# Altium integrated library PLD Supported Devices.IntLib: 344 symbols (part 3 of 6)
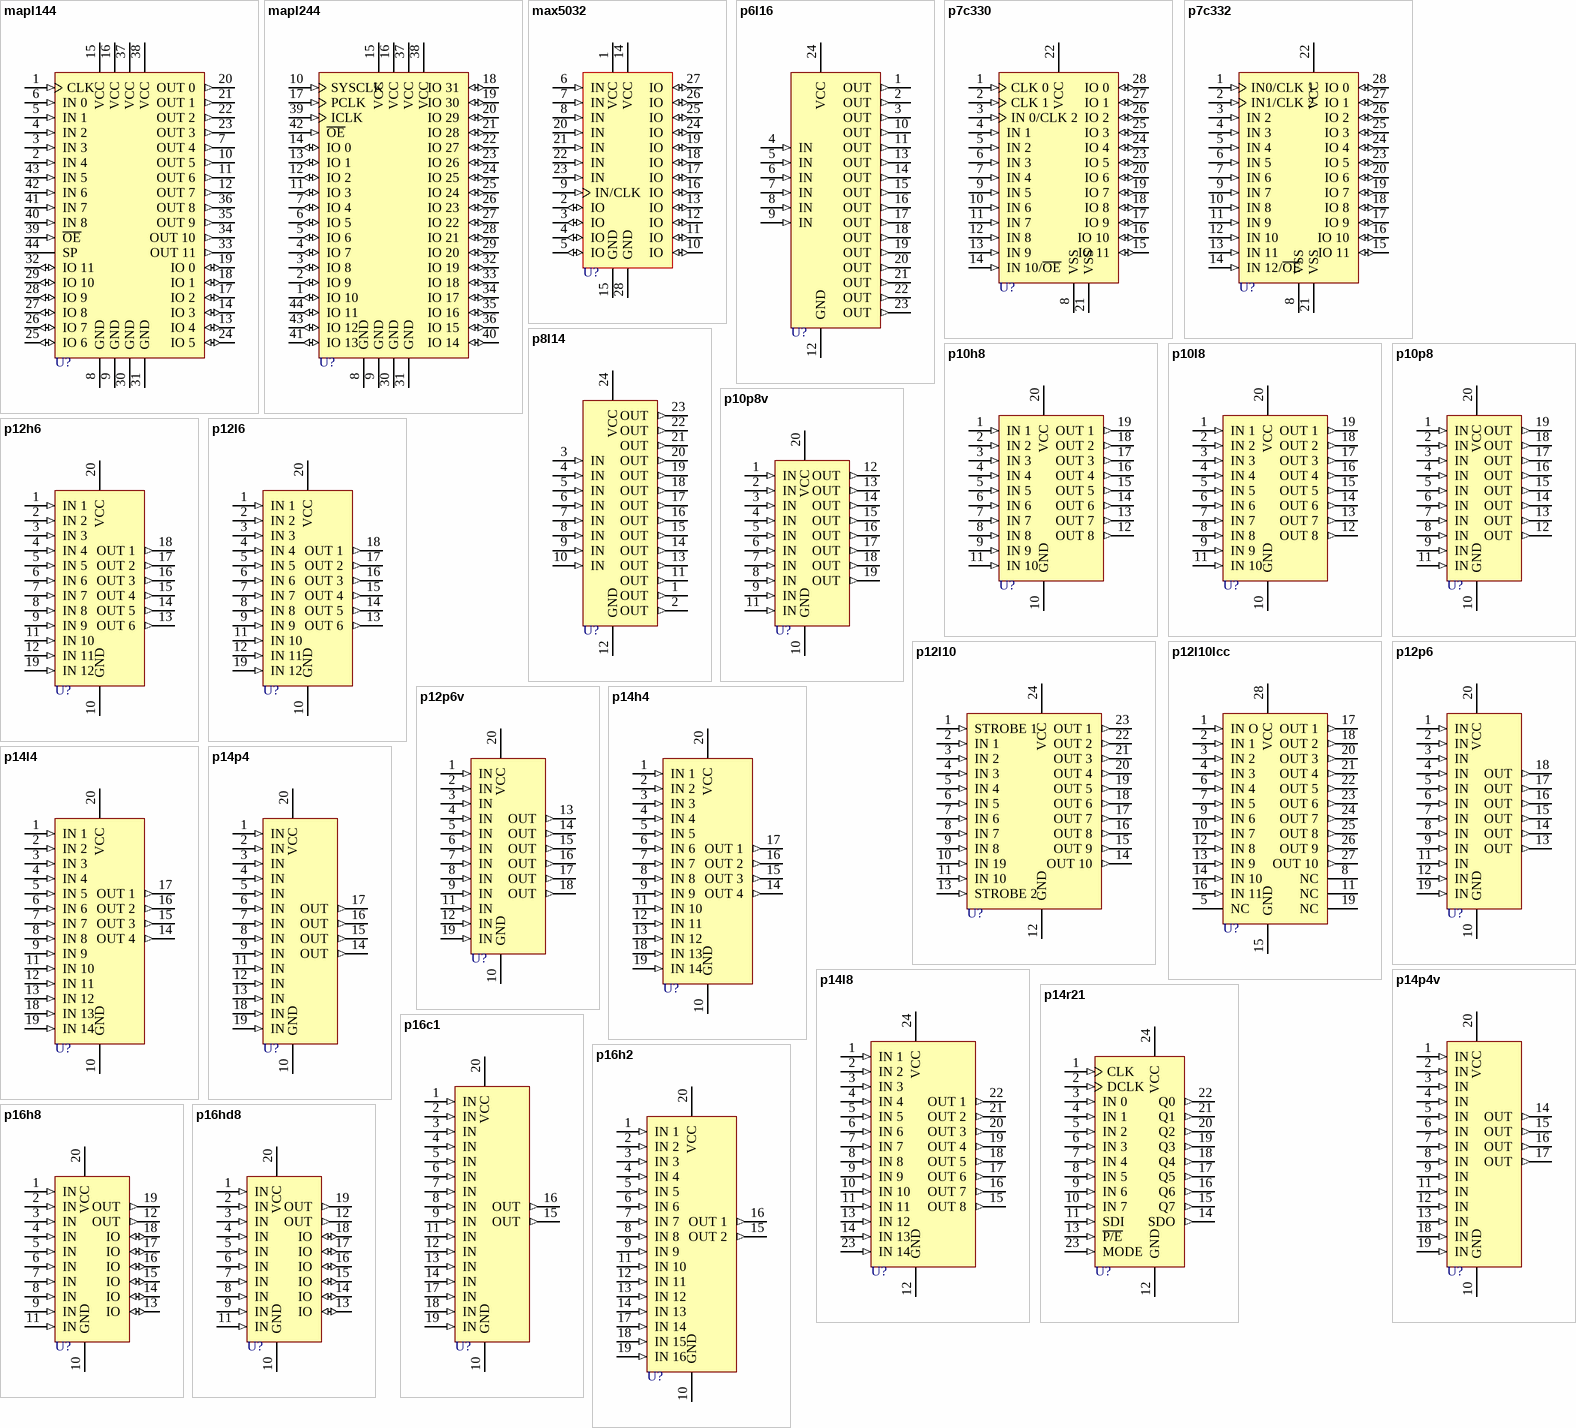
[diagram p20: symbols mapl144 to p16hd8]

## p10l8
designator U?
Combinational Logic with No Feedback; Published: 16-Jul-2002; LatestRevisionDate: 17-Jul-2002; LatestRevisionNote: Re-released for DXP Platform.; Publisher: Altium Limited
footprint DIP-20
pins: 1 IN 1 (in), 2 IN 2 (in), 3 IN 3 (in), 4 IN 4 (in), 5 IN 5 (in), 6 IN 6 (in), 7 IN 7 (in), 8 IN 8 (in), 9 IN 9 (in), 10 GND (power), 11 IN 10 (in), 12 OUT 8 (out), 13 OUT 7 (out), 14 OUT 6 (out), 15 OUT 5 (out), 16 OUT 4 (out), 17 OUT 3 (out), 18 OUT 2 (out), 19 OUT 1 (out), 20 VCC (power)

## p10p8
designator U?
CMOS Electronically Programmable Logic; Published: 16-Jul-2002; LatestRevisionDate: 17-Jul-2002; LatestRevisionNote: Re-released for DXP Platform.; Publisher: Altium Limited
footprint DIP-20
pins: 1 IN (in), 2 IN (in), 3 IN (in), 4 IN (in), 5 IN (in), 6 IN (in), 7 IN (in), 8 IN (in), 9 IN (in), 10 GND (power), 11 IN (in), 12 OUT (out), 13 OUT (out), 14 OUT (out), 15 OUT (out), 16 OUT (out), 17 OUT (out), 18 OUT (out), 19 OUT (out), 20 VCC (power)

## p10p8v
designator U?
CMOS EPL Series A/B; Published: 16-Jul-2002; LatestRevisionDate: 17-Jul-2002; LatestRevisionNote: Re-released for DXP Platform.; Publisher: Altium Limited
pins: 1 IN (in), 2 IN (in), 3 IN (in), 4 IN (in), 5 IN (in), 6 IN (in), 7 IN (in), 8 IN (in), 9 IN (in), 10 GND (power), 11 IN (in), 12 OUT (out), 13 OUT (out), 14 OUT (out), 15 OUT (out), 16 OUT (out), 17 OUT (out), 18 OUT (out), 19 OUT (out), 20 VCC (power)

## p12h6
designator U?
Combinational Logic with No Feedback; Published: 16-Jul-2002; LatestRevisionDate: 17-Jul-2002; LatestRevisionNote: Re-released for DXP Platform.; Publisher: Altium Limited
footprint DIP-20
pins: 1 IN 1 (in), 2 IN 2 (in), 3 IN 3 (in), 4 IN 4 (in), 5 IN 5 (in), 6 IN 6 (in), 7 IN 7 (in), 8 IN 8 (in), 9 IN 9 (in), 10 GND (power), 11 IN 10 (in), 12 IN 11 (in), 13 OUT 6 (out), 14 OUT 5 (out), 15 OUT 4 (out), 16 OUT 3 (out), 17 OUT 2 (out), 18 OUT 1 (out), 19 IN 12 (in), 20 VCC (power)

## p12l6
designator U?
Combinational Logic with No Feedback; Published: 16-Jul-2002; LatestRevisionDate: 17-Jul-2002; LatestRevisionNote: Re-released for DXP Platform.; Publisher: Altium Limited
footprint DIP-20
pins: 1 IN 1 (in), 2 IN 2 (in), 3 IN 3 (in), 4 IN 4 (in), 5 IN 5 (in), 6 IN 6 (in), 7 IN 7 (in), 8 IN 8 (in), 9 IN 9 (in), 10 GND (power), 11 IN 10 (in), 12 IN 11 (in), 13 OUT 6 (out), 14 OUT 5 (out), 15 OUT 4 (out), 16 OUT 3 (out), 17 OUT 2 (out), 18 OUT 1 (out), 19 IN 12 (in), 20 VCC (power)

## p12l10
designator U?
Combinational Logic with No Feedback; Published: 16-Jul-2002; LatestRevisionDate: 17-Jul-2002; LatestRevisionNote: Re-released for DXP Platform.; Publisher: Altium Limited
footprint DIP-24/X1.5
pins: 1 STROBE 1 (in), 2 IN 1 (in), 3 IN 2 (in), 4 IN 3 (in), 5 IN 4 (in), 6 IN 5 (in), 7 IN 6 (in), 8 IN 7 (in), 9 IN 8 (in), 10 IN 19 (in), 11 IN 10 (in), 12 GND (power), 13 STROBE 2 (in), 14 OUT 10 (out), 15 OUT 9 (out), 16 OUT 8 (out), 17 OUT 7 (out), 18 OUT 6 (out), 19 OUT 5 (out), 20 OUT 4 (out), 21 OUT 3 (out), 22 OUT 2 (out), 23 OUT 1 (out), 24 VCC (power)

## p12l10lcc
designator U?
Combinational Logic with No Feedback; Published: 16-Jul-2002; LatestRevisionDate: 17-Jul-2002; LatestRevisionNote: Re-released for DXP Platform.; Publisher: Altium Limited
footprint QCC-J28/X.6
pins: 1 IN O (in), 2 IN 1 (in), 3 IN 2 (in), 4 IN 3 (in), 5 NC, 6 IN 4 (in), 7 IN 5 (in), 8 NC, 9 IN 6 (in), 10 IN 7 (in), 11 NC, 12 IN 8 (in), 13 IN 9 (in), 14 IN 10 (in), 15 GND (power), 16 IN 11 (in), 17 OUT 1 (out), 18 OUT 2 (out), 19 NC, 20 OUT 3 (out), 21 OUT 4 (out), 22 OUT 5 (out), 23 OUT 6 (out), 24 OUT 7 (out), 25 OUT 8 (out), 26 OUT 9 (out), 27 OUT 10 (out), 28 VCC (power)

## p12p6
designator U?
CMOS Electronically Programmable Logic; Published: 16-Jul-2002; LatestRevisionDate: 17-Jul-2002; LatestRevisionNote: Re-released for DXP Platform.; Publisher: Altium Limited
footprint DIP-20
pins: 1 IN (in), 2 IN (in), 3 IN (in), 4 IN (in), 5 IN (in), 6 IN (in), 7 IN (in), 8 IN (in), 9 IN (in), 10 GND (power), 11 IN (in), 12 IN (in), 13 OUT (out), 14 OUT (out), 15 OUT (out), 16 OUT (out), 17 OUT (out), 18 OUT (out), 19 IN (in), 20 VCC (power)

## p12p6v
designator U?
CMOS EPL Series A/B; Published: 16-Jul-2002; LatestRevisionDate: 17-Jul-2002; LatestRevisionNote: Re-released for DXP Platform.; Publisher: Altium Limited
pins: 1 IN (in), 2 IN (in), 3 IN (in), 4 IN (in), 5 IN (in), 6 IN (in), 7 IN (in), 8 IN (in), 9 IN (in), 10 GND (power), 11 IN (in), 12 IN (in), 13 OUT (out), 14 OUT (out), 15 OUT (out), 16 OUT (out), 17 OUT (out), 18 OUT (out), 19 IN (in), 20 VCC (power)

## p14h4
designator U?
Combinational Logic with No Feedback; Published: 16-Jul-2002; LatestRevisionDate: 17-Jul-2002; LatestRevisionNote: Re-released for DXP Platform.; Publisher: Altium Limited
footprint DIP-20
pins: 1 IN 1 (in), 2 IN 2 (in), 3 IN 3 (in), 4 IN 4 (in), 5 IN 5 (in), 6 IN 6 (in), 7 IN 7 (in), 8 IN 8 (in), 9 IN 9 (in), 10 GND (power), 11 IN 10 (in), 12 IN 11 (in), 13 IN 12 (in), 14 OUT 4 (out), 15 OUT 3 (out), 16 OUT 2 (out), 17 OUT 1 (out), 18 IN 13 (in), 19 IN 14 (in), 20 VCC (power)

## p14l4
designator U?
Combinatorial Logic, with No Feedback 20-Pin PAL Device; Published: 16-Jul-2002; LatestRevisionDate: 17-Jul-2002; LatestRevisionNote: Re-released for DXP Platform.; Publisher: Altium Limited
footprint DIP-20
pins: 1 IN 1 (in), 2 IN 2 (in), 3 IN 3 (in), 4 IN 4 (in), 5 IN 5 (in), 6 IN 6 (in), 7 IN 7 (in), 8 IN 8 (in), 9 IN 9 (in), 10 GND (power), 11 IN 10 (in), 12 IN 11 (in), 13 IN 12 (in), 14 OUT 4 (out), 15 OUT 3 (out), 16 OUT 2 (out), 17 OUT 1 (out), 18 IN 13 (in), 19 IN 14 (in), 20 VCC (power)

## p14l8
designator U?
Six Combinatorial Logic, with No Feedback 24-Pin PAL Device; Published: 16-Jul-2002; LatestRevisionDate: 17-Jul-2002; LatestRevisionNote: Re-released for DXP Platform.; Publisher: Altium Limited
footprint DIP-24/X1.5
pins: 1 IN 1 (in), 2 IN 2 (in), 3 IN 3 (in), 4 IN 4 (in), 5 IN 5 (in), 6 IN 6 (in), 7 IN 7 (in), 8 IN 8 (in), 9 IN 9 (in), 10 IN 10 (in), 11 IN 11 (in), 12 GND (power), 13 IN 12 (in), 14 IN 13 (in), 15 OUT 8 (out), 16 OUT 7 (out), 17 OUT 6 (out), 18 OUT 5 (out), 19 OUT 4 (out), 20 OUT 3 (out), 21 OUT 2 (out), 22 OUT 1 (out), 23 IN 14 (in), 24 VCC (power)

## p14p4
designator U?
CMOS Electronically Programmable Logic; Published: 16-Jul-2002; LatestRevisionDate: 17-Jul-2002; LatestRevisionNote: Re-released for DXP Platform.; Publisher: Altium Limited
footprint DIP-20
pins: 1 IN (in), 2 IN (in), 3 IN (in), 4 IN (in), 5 IN (in), 6 IN (in), 7 IN (in), 8 IN (in), 9 IN (in), 10 GND (power), 11 IN (in), 12 IN (in), 13 IN (in), 14 OUT (out), 15 OUT (out), 16 OUT (out), 17 OUT (out), 18 IN (in), 19 IN (in), 20 VCC (power)

## p14p4v
designator U?
CMOS EPL Series A/B; Published: 16-Jul-2002; LatestRevisionDate: 17-Jul-2002; LatestRevisionNote: Re-released for DXP Platform.; Publisher: Altium Limited
pins: 1 IN (in), 2 IN (in), 3 IN (in), 4 IN (in), 5 IN (in), 6 IN (in), 7 IN (in), 8 IN (in), 9 IN (in), 10 GND (power), 11 IN (in), 12 IN (in), 13 IN (in), 14 OUT (out), 15 OUT (out), 16 OUT (out), 17 OUT (out), 18 IN (in), 19 IN (in), 20 VCC (power)

## p14r21
designator U?
Programable Sequencer; Published: 16-Jul-2002; LatestRevisionDate: 17-Jul-2002; LatestRevisionNote: Re-released for DXP Platform.; Publisher: Altium Limited
footprint DIP-24/D31
pins: 1 CLK (in), 2 DCLK (in), 3 IN 0 (in), 4 IN 1 (in), 5 IN 2 (in), 6 IN 3 (in), 7 IN 4 (in), 8 IN 5 (in), 9 IN 6 (in), 10 IN 7 (in), 11 SDI (in), 12 GND (power), 13 ~{P/E} (in), 14 SDO (out), 15 Q7 (out), 16 Q6 (out), 17 Q5 (out), 18 Q4 (out), 19 Q3 (out), 20 Q2 (out), 21 Q1 (out), 22 Q0 (out), 23 MODE (in), 24 VCC (power)

## p16c1
designator U?
PAL Series 20 AP with Programmable Output Polarity; Published: 16-Jul-2002; LatestRevisionDate: 17-Jul-2002; LatestRevisionNote: Re-released for DXP Platform.; Publisher: Altium Limited
footprint DIP-20
pins: 1 IN (in), 2 IN (in), 3 IN (in), 4 IN (in), 5 IN (in), 6 IN (in), 7 IN (in), 8 IN (in), 9 IN (in), 10 GND (power), 11 IN (in), 12 IN (in), 13 IN (in), 14 IN (in), 15 OUT (out), 16 OUT (out), 17 IN (in), 18 IN (in), 19 IN (in), 20 VCC (power)

## p16h2
designator U?
Combinational Logic with No Feedback; Published: 16-Jul-2002; LatestRevisionDate: 17-Jul-2002; LatestRevisionNote: Re-released for DXP Platform.; Publisher: Altium Limited
footprint DIP-20/E5.3
pins: 1 IN 1 (in), 2 IN 2 (in), 3 IN 3 (in), 4 IN 4 (in), 5 IN 5 (in), 6 IN 6 (in), 7 IN 7 (in), 8 IN 8 (in), 9 IN 9 (in), 10 GND (power), 11 IN 10 (in), 12 IN 11 (in), 13 IN 12 (in), 14 IN 13 (in), 15 OUT 2 (out), 16 OUT 1 (out), 17 IN 14 (in), 18 IN 15 (in), 19 IN 16 (in), 20 VCC (power)

## p16h8
designator U?
20-Pin IMOX PAL Elements; Published: 16-Jul-2002; LatestRevisionDate: 17-Jul-2002; LatestRevisionNote: Re-released for DXP Platform.; Publisher: Altium Limited
footprint DIP-20/E5.3
pins: 1 IN (in), 2 IN (in), 3 IN (in), 4 IN (in), 5 IN (in), 6 IN (in), 7 IN (in), 8 IN (in), 9 IN (in), 10 GND (power), 11 IN (in), 12 OUT (out), 13 IO (io), 14 IO (io), 15 IO (io), 16 IO (io), 17 IO (io), 18 IO (io), 19 OUT (out), 20 VCC (power)

## p16hd8
designator U?
20-Pin IMOX PAL Elements; Published: 16-Jul-2002; LatestRevisionDate: 17-Jul-2002; LatestRevisionNote: Re-released for DXP Platform.; Publisher: Altium Limited
footprint DIP-20/D25
pins: 1 IN (in), 2 IN (in), 3 IN (in), 4 IN (in), 5 IN (in), 6 IN (in), 7 IN (in), 8 IN (in), 9 IN (in), 10 GND (power), 11 IN (in), 12 OUT (out), 13 IO (io), 14 IO (io), 15 IO (io), 16 IO (io), 17 IO (io), 18 IO (io), 19 OUT (out), 20 VCC (power)

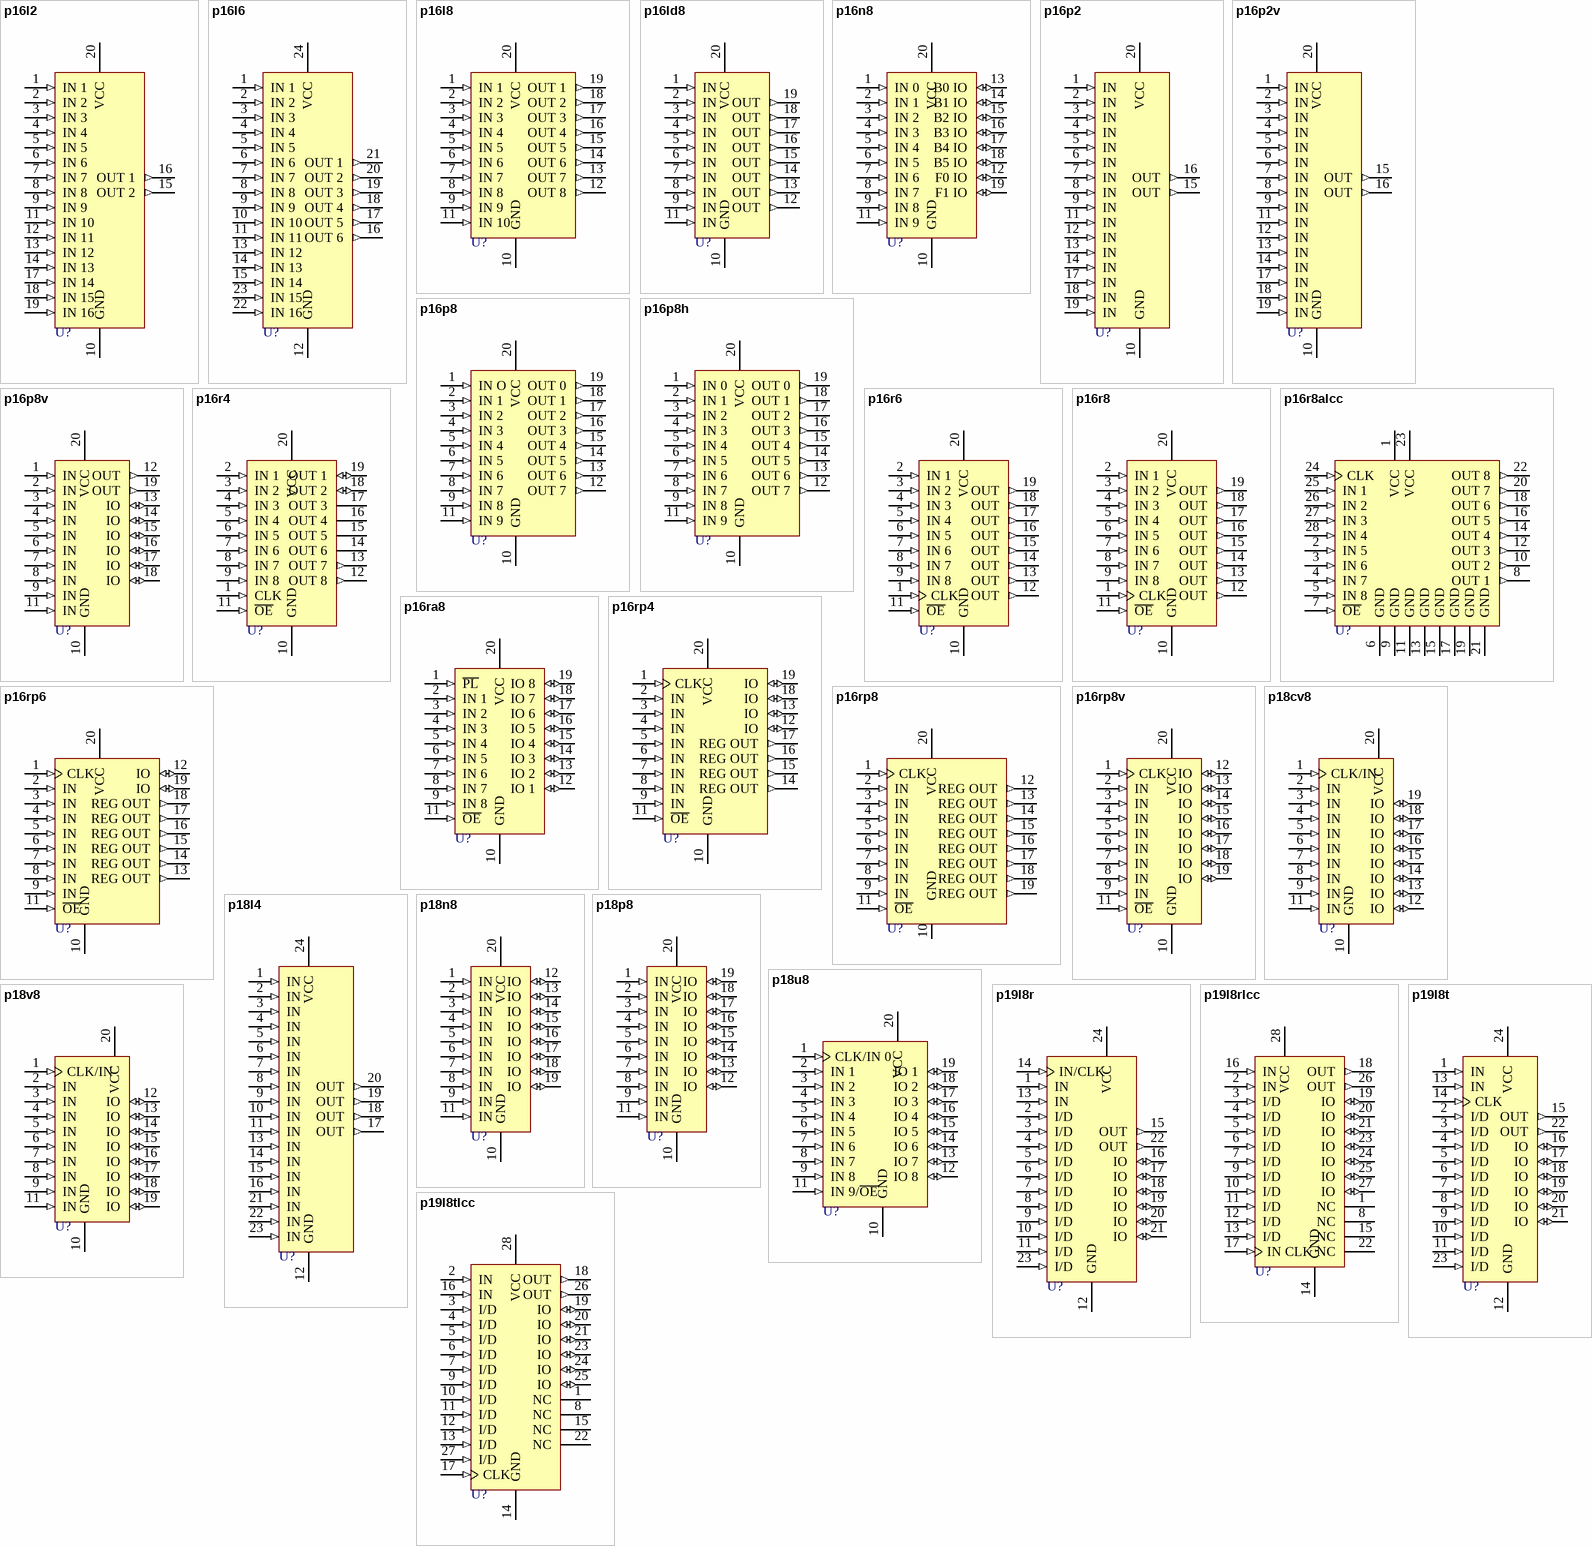
[diagram p8: symbols p16l2 to p19l8tlcc]

## p16l2
designator U?
Nine Combinatorial Logic, with No Feedback 20-Pin PAL Device; Published: 16-Jul-2002; LatestRevisionDate: 17-Jul-2002; LatestRevisionNote: Re-released for DXP Platform.; Publisher: Altium Limited
footprint DIP-20/E5.3
pins: 1 IN 1 (in), 2 IN 2 (in), 3 IN 3 (in), 4 IN 4 (in), 5 IN 5 (in), 6 IN 6 (in), 7 IN 7 (in), 8 IN 8 (in), 9 IN 9 (in), 10 GND (power), 11 IN 10 (in), 12 IN 11 (in), 13 IN 12 (in), 14 IN 13 (in), 15 OUT 2 (out), 16 OUT 1 (out), 17 IN 14 (in), 18 IN 15 (in), 19 IN 16 (in), 20 VCC (power)

## p16l6
designator U?
Six Combinatorial Logic, with No Feedback 24-Pin PAL Device; Published: 16-Jul-2002; LatestRevisionDate: 17-Jul-2002; LatestRevisionNote: Re-released for DXP Platform.; Publisher: Altium Limited
footprint DIP-24/X1.5
pins: 1 IN 1 (in), 2 IN 2 (in), 3 IN 3 (in), 4 IN 4 (in), 5 IN 5 (in), 6 IN 6 (in), 7 IN 7 (in), 8 IN 8 (in), 9 IN 9 (in), 10 IN 10 (in), 11 IN 11 (in), 12 GND (power), 13 IN 12 (in), 14 IN 13 (in), 15 IN 14 (in), 16 OUT 6 (out), 17 OUT 5 (out), 18 OUT 4 (out), 19 OUT 3 (out), 20 OUT 2 (out), 21 OUT 1 (out), 22 IN 16 (in), 23 IN 15 (in), 24 VCC (power)

## p16l8
designator U?
10ns 20-Pin TTL PAL; Published: 16-Jul-2002; LatestRevisionDate: 17-Jul-2002; LatestRevisionNote: Re-released for DXP Platform.; Publisher: Altium Limited
footprint DIP-20/E5.3
pins: 1 IN 1 (in), 2 IN 2 (in), 3 IN 3 (in), 4 IN 4 (in), 5 IN 5 (in), 6 IN 6 (in), 7 IN 7 (in), 8 IN 8 (in), 9 IN 9 (in), 10 GND (power), 11 IN 10 (in), 12 OUT 8 (out), 13 OUT 7 (out), 14 OUT 6 (out), 15 OUT 5 (out), 16 OUT 4 (out), 17 OUT 3 (out), 18 OUT 2 (out), 19 OUT 1 (out), 20 VCC (power)

## p16ld8
designator U?
20-Pin IMOX PAL Elements; Published: 16-Jul-2002; LatestRevisionDate: 17-Jul-2002; LatestRevisionNote: Re-released for DXP Platform.; Publisher: Altium Limited
pins: 1 IN (in), 2 IN (in), 3 IN (in), 4 IN (in), 5 IN (in), 6 IN (in), 7 IN (in), 8 IN (in), 9 IN (in), 10 GND (power), 11 IN (in), 12 OUT (out), 13 OUT (out), 14 OUT (out), 15 OUT (out), 16 OUT (out), 17 OUT (out), 18 OUT (out), 19 OUT (out), 20 VCC (power)

## p16n8
designator U?
Programmable High-Speed Decoder Logic (16x16x8); Published: 16-Jul-2002; LatestRevisionDate: 17-Jul-2002; LatestRevisionNote: Re-released for DXP Platform.; Publisher: Altium Limited
pins: 1 IN 0 (in), 2 IN 1 (in), 3 IN 2 (in), 4 IN 3 (in), 5 IN 4 (in), 6 IN 5 (in), 7 IN 6 (in), 8 IN 7 (in), 9 IN 8 (in), 10 GND (power), 11 IN 9 (in), 12 F0 IO (io), 13 B0 IO (io), 14 B1 IO (io), 15 B2 IO (io), 16 B3 IO (io), 17 B4 IO (io), 18 B5 IO (io), 19 F1 IO (io), 20 VCC (power)

## p16p2
designator U?
CMOS Electronically Programmable Logic; Published: 16-Jul-2002; LatestRevisionDate: 17-Jul-2002; LatestRevisionNote: Re-released for DXP Platform.; Publisher: Altium Limited
pins: 1 IN (in), 2 IN (in), 3 IN (in), 4 IN (in), 5 IN (in), 6 IN (in), 7 IN (in), 8 IN (in), 9 IN (in), 10 GND (power), 11 IN (in), 12 IN (in), 13 IN (in), 14 IN (in), 15 OUT (out), 16 OUT (out), 17 IN (in), 18 IN (in), 19 IN (in), 20 VCC (power)

## p16p2v
designator U?
CMOS EPL Series A/B; Published: 16-Jul-2002; LatestRevisionDate: 17-Jul-2002; LatestRevisionNote: Re-released for DXP Platform.; Publisher: Altium Limited
pins: 1 IN (in), 2 IN (in), 3 IN (in), 4 IN (in), 5 IN (in), 6 IN (in), 7 IN (in), 8 IN (in), 9 IN (in), 10 GND (power), 11 IN (in), 12 IN (in), 13 IN (in), 14 IN (in), 15 OUT (out), 16 OUT (out), 17 IN (in), 18 IN (in), 19 IN (in), 20 VCC (power)

## p16p8
designator U?
Programmable Logic Array Memory & High-Speed Logic; Published: 16-Jul-2002; LatestRevisionDate: 17-Jul-2002; LatestRevisionNote: Re-released for DXP Platform.; Publisher: Altium Limited
footprint DIP-20/D25
pins: 1 IN O (in), 2 IN 1 (in), 3 IN 2 (in), 4 IN 3 (in), 5 IN 4 (in), 6 IN 5 (in), 7 IN 6 (in), 8 IN 7 (in), 9 IN 8 (in), 10 GND (power), 11 IN 9 (in), 12 OUT 7 (out), 13 OUT 6 (out), 14 OUT 5 (out), 15 OUT 4 (out), 16 OUT 3 (out), 17 OUT 2 (out), 18 OUT 1 (out), 19 OUT 0 (out), 20 VCC (power)

## p16p8h
designator U?
HPL Programmable Logic; Published: 16-Jul-2002; LatestRevisionDate: 17-Jul-2002; LatestRevisionNote: Re-released for DXP Platform.; Publisher: Altium Limited
pins: 1 IN 0 (in), 2 IN 1 (in), 3 IN 2 (in), 4 IN 3 (in), 5 IN 4 (in), 6 IN 5 (in), 7 IN 6 (in), 8 IN 7 (in), 9 IN 8 (in), 10 GND (power), 11 IN 9 (in), 12 OUT 7 (out), 13 OUT 6 (out), 14 OUT 5 (out), 15 OUT 4 (out), 16 OUT 3 (out), 17 OUT 2 (out), 18 OUT 1 (out), 19 OUT 0 (out), 20 VCC (power)

## p16p8v
designator U?
CMOS EPL Series A/B; Published: 16-Jul-2002; LatestRevisionDate: 17-Jul-2002; LatestRevisionNote: Re-released for DXP Platform.; Publisher: Altium Limited
pins: 1 IN (in), 2 IN (in), 3 IN (in), 4 IN (in), 5 IN (in), 6 IN (in), 7 IN (in), 8 IN (in), 9 IN (in), 10 GND (power), 11 IN (in), 12 OUT (out), 13 IO (io), 14 IO (io), 15 IO (io), 16 IO (io), 17 IO (io), 18 IO (io), 19 OUT (out), 20 VCC (power)

## p16r4
designator U?
20-Pin IMOX PAL Elements; Published: 16-Jul-2002; LatestRevisionDate: 17-Jul-2002; LatestRevisionNote: Re-released for DXP Platform.; Publisher: Altium Limited
footprint DIP-20/E5.3
pins: 1 CLK (in), 2 IN 1 (in), 3 IN 2 (in), 4 IN 3 (in), 5 IN 4 (in), 6 IN 5 (in), 7 IN 6 (in), 8 IN 7 (in), 9 IN 8 (in), 10 GND (power), 11 ~{OE} (in), 12 OUT 8 (out), 13 OUT 7 (out), 14 OUT 6 (hiz), 15 OUT 5 (hiz), 16 OUT 4 (hiz), 17 OUT 3 (hiz), 18 OUT 2 (io), 19 OUT 1 (io), 20 VCC (power)

## p16r6
designator U?
20-Pin IMOX PAL Elements; Published: 16-Jul-2002; LatestRevisionDate: 17-Jul-2002; LatestRevisionNote: Re-released for DXP Platform.; Publisher: Altium Limited
footprint DIP-20/E5.3
pins: 1 CLK (in), 2 IN 1 (in), 3 IN 2 (in), 4 IN 3 (in), 5 IN 4 (in), 6 IN 5 (in), 7 IN 6 (in), 8 IN 7 (in), 9 IN 8 (in), 10 GND (power), 11 ~{OE} (in), 12 OUT (out), 13 OUT (out), 14 OUT (out), 15 OUT (out), 16 OUT (out), 17 OUT (out), 18 OUT (out), 19 OUT (out), 20 VCC (power)

## p16r8
designator U?
20-Pin IMOX PAL Elements; Published: 16-Jul-2002; LatestRevisionDate: 17-Jul-2002; LatestRevisionNote: Re-released for DXP Platform.; Publisher: Altium Limited
footprint DIP-20/E5.3
pins: 1 CLK (in), 2 IN 1 (in), 3 IN 2 (in), 4 IN 3 (in), 5 IN 4 (in), 6 IN 5 (in), 7 IN 6 (in), 8 IN 7 (in), 9 IN 8 (in), 10 GND (power), 11 ~{OE} (in), 12 OUT (out), 13 OUT (out), 14 OUT (out), 15 OUT (out), 16 OUT (out), 17 OUT (out), 18 OUT (out), 19 OUT (out), 20 VCC (power)

## p16r8alcc
designator U?
10ns 20-Pin TTL Programmable Array Logic; Published: 16-Jul-2002; LatestRevisionDate: 17-Jul-2002; LatestRevisionNote: Re-released for DXP Platform.; Publisher: Altium Limited
footprint QCC-J28/X.6
pins: 1 VCC (power), 2 IN 5 (in), 3 IN 6 (in), 4 IN 7 (in), 5 IN 8 (in), 6 GND (power), 7 ~{OE} (in), 8 OUT 1 (out), 9 GND (power), 10 OUT 2 (out), 11 GND (power), 12 OUT 3 (out), 13 GND (power), 14 OUT 4 (out), 15 GND (power), 16 OUT 5 (out), 17 GND (power), 18 OUT 6 (out), 19 GND (power), 20 OUT 7 (out), 21 GND (power), 22 OUT 8 (out), 23 VCC (power), 24 CLK (in), 25 IN 1 (in), 26 IN 2 (in), 27 IN 3 (in), 28 IN 4 (in)

## p16ra8
designator U?
20-Pin Asynchronous TTL PAL; Published: 16-Jul-2002; LatestRevisionDate: 17-Jul-2002; LatestRevisionNote: Re-released for DXP Platform.; Publisher: Altium Limited
footprint DIP-20/E5.3
pins: 1 ~{PL} (in), 2 IN 1 (in), 3 IN 2 (in), 4 IN 3 (in), 5 IN 4 (in), 6 IN 5 (in), 7 IN 6 (in), 8 IN 7 (in), 9 IN 8 (in), 10 GND (power), 11 ~{OE} (in), 12 IO 1 (io), 13 IO 2 (io), 14 IO 3 (io), 15 IO 4 (io), 16 IO 5 (io), 17 IO 6 (io), 18 IO 7 (io), 19 IO 8 (io), 20 VCC (power)

## p16rp4
designator U?
High-Performance Bipolar PLD; Published: 16-Jul-2002; LatestRevisionDate: 17-Jul-2002; LatestRevisionNote: Re-released for DXP Platform.; Publisher: Altium Limited
pins: 1 CLK (in), 2 IN (in), 3 IN (in), 4 IN (in), 5 IN (in), 6 IN (in), 7 IN (in), 8 IN (in), 9 IN (in), 10 GND (power), 11 ~{OE} (in), 12 IO (io), 13 IO (io), 14 REG OUT (out), 15 REG OUT (out), 16 REG OUT (out), 17 REG OUT (out), 18 IO (io), 19 IO (io), 20 VCC (power)

## p16rp6
designator U?
High-Performance Bipolar PLD; Published: 16-Jul-2002; LatestRevisionDate: 17-Jul-2002; LatestRevisionNote: Re-released for DXP Platform.; Publisher: Altium Limited
footprint DIP-20/D25
pins: 1 CLK (in), 2 IN (in), 3 IN (in), 4 IN (in), 5 IN (in), 6 IN (in), 7 IN (in), 8 IN (in), 9 IN (in), 10 GND (power), 11 ~{OE} (in), 12 IO (io), 13 REG OUT (out), 14 REG OUT (out), 15 REG OUT (out), 16 REG OUT (out), 17 REG OUT (out), 18 REG OUT (out), 19 IO (io), 20 VCC (power)

## p16rp8
designator U?
High-Performance Bipolar PLD; Published: 16-Jul-2002; LatestRevisionDate: 17-Jul-2002; LatestRevisionNote: Re-released for DXP Platform.; Publisher: Altium Limited
footprint DIP-20/E5.3
pins: 1 CLK (in), 2 IN (in), 3 IN (in), 4 IN (in), 5 IN (in), 6 IN (in), 7 IN (in), 8 IN (in), 9 IN (in), 10 GND (power), 11 ~{OE} (in), 12 REG OUT (out), 13 REG OUT (out), 14 REG OUT (out), 15 REG OUT (out), 16 REG OUT (out), 17 REG OUT (out), 18 REG OUT (out), 19 REG OUT (out), 20 VCC (power)

## p16rp8v
designator U?
CMOS EPL Series A/B; Published: 16-Jul-2002; LatestRevisionDate: 17-Jul-2002; LatestRevisionNote: Re-released for DXP Platform.; Publisher: Altium Limited
pins: 1 CLK (in), 2 IN (in), 3 IN (in), 4 IN (in), 5 IN (in), 6 IN (in), 7 IN (in), 8 IN (in), 9 IN (in), 10 GND (power), 11 ~{OE} (in), 12 IO (io), 13 IO (io), 14 IO (io), 15 IO (io), 16 IO (io), 17 IO (io), 18 IO (io), 19 IO (io), 20 VCC (power)

## p18cv8
designator U?
CMOS Programmable Electrically Erasable Logic Device; Published: 16-Jul-2002; LatestRevisionDate: 17-Jul-2002; LatestRevisionNote: Re-released for DXP Platform.; Publisher: Altium Limited
pins: 1 CLK/IN (in), 2 IN (in), 3 IN (in), 4 IN (in), 5 IN (in), 6 IN (in), 7 IN (in), 8 IN (in), 9 IN (in), 10 GND (power), 11 IN (in), 12 IO (io), 13 IO (io), 14 IO (io), 15 IO (io), 16 IO (io), 17 IO (io), 18 IO (io), 19 IO (io), 20 VCC (power)

## p18l4
designator U?
Combinatorial 24-Pin PAL Devices; Published: 16-Jul-2002; LatestRevisionDate: 17-Jul-2002; LatestRevisionNote: Re-released for DXP Platform.; Publisher: Altium Limited
footprint DIP-24/X1.5
pins: 1 IN (in), 2 IN (in), 3 IN (in), 4 IN (in), 5 IN (in), 6 IN (in), 7 IN (in), 8 IN (in), 9 IN (in), 10 IN (in), 11 IN (in), 12 GND (power), 13 IN (in), 14 IN (in), 15 IN (in), 16 IN (in), 17 OUT (out), 18 OUT (out), 19 OUT (out), 20 OUT (out), 21 IN (in), 22 IN (in), 23 IN (in), 24 VCC (power)

## p18n8
designator U?
High-Performance Programmable Address Decoder/NAND Array; Published: 16-Jul-2002; LatestRevisionDate: 17-Jul-2002; LatestRevisionNote: Re-released for DXP Platform.; Publisher: Altium Limited
footprint DIP-20
pins: 1 IN (in), 2 IN (in), 3 IN (in), 4 IN (in), 5 IN (in), 6 IN (in), 7 IN (in), 8 IN (in), 9 IN (in), 10 GND (power), 11 IN (in), 12 IO (io), 13 IO (io), 14 IO (io), 15 IO (io), 16 IO (io), 17 IO (io), 18 IO (io), 19 IO (io), 20 VCC (power)

## p18p8
designator U?
20-Pin Combinational TTL PAL; Published: 16-Jul-2002; LatestRevisionDate: 17-Jul-2002; LatestRevisionNote: Re-released for DXP Platform.; Publisher: Altium Limited
pins: 1 IN (in), 2 IN (in), 3 IN (in), 4 IN (in), 5 IN (in), 6 IN (in), 7 IN (in), 8 IN (in), 9 IN (in), 10 GND (power), 11 IN (in), 12 IO (io), 13 IO (io), 14 IO (io), 15 IO (io), 16 IO (io), 17 IO (io), 18 IO (io), 19 IO (io), 20 VCC (power)

## p18u8
designator U?
CMOS Universal PAL; Published: 16-Jul-2002; LatestRevisionDate: 17-Jul-2002; LatestRevisionNote: Re-released for DXP Platform.; Publisher: Altium Limited
pins: 1 CLK/IN 0 (in), 2 IN 1 (in), 3 IN 2 (in), 4 IN 3 (in), 5 IN 4 (in), 6 IN 5 (in), 7 IN 6 (in), 8 IN 7 (in), 9 IN 8 (in), 10 GND (power), 11 IN 9/~{OE} (in), 12 IO 8 (io), 13 IO 7 (io), 14 IO 6 (io), 15 IO 5 (io), 16 IO 4 (io), 17 IO 3 (io), 18 IO 2 (io), 19 IO 1 (io), 20 VCC (power)

## p18v8
designator U?
Advanced Epic CMOS Generic PAL; Published: 16-Jul-2002; LatestRevisionDate: 17-Jul-2002; LatestRevisionNote: Re-released for DXP Platform.; Publisher: Altium Limited
footprint DIP-20/D25
pins: 1 CLK/IN (in), 2 IN (in), 3 IN (in), 4 IN (in), 5 IN (in), 6 IN (in), 7 IN (in), 8 IN (in), 9 IN (in), 10 GND (power), 11 IN (in), 12 IO (io), 13 IO (io), 14 IO (io), 15 IO (io), 16 IO (io), 17 IO (io), 18 IO (io), 19 IO (io), 20 VCC (power)

## p19l8r
designator U?
High-Performance Registered-Input PAL Circuits; Published: 16-Jul-2002; LatestRevisionDate: 17-Jul-2002; LatestRevisionNote: Re-released for DXP Platform.; Publisher: Altium Limited
footprint DIP-24/X1.5
pins: 1 IN (in), 2 I/D (in), 3 I/D (in), 4 I/D (in), 5 I/D (in), 6 I/D (in), 7 I/D (in), 8 I/D (in), 9 I/D (in), 10 I/D (in), 11 I/D (in), 12 GND (power), 13 IN (in), 14 IN/CLK (in), 15 OUT (out), 16 IO (io), 17 IO (io), 18 IO (io), 19 IO (io), 20 IO (io), 21 IO (io), 22 OUT (out), 23 I/D (in), 24 VCC (power)

## p19l8rlcc
designator U?
High-Performance Registered-Input PAL Circuits; Published: 16-Jul-2002; LatestRevisionDate: 17-Jul-2002; LatestRevisionNote: Re-released for DXP Platform.; Publisher: Altium Limited
footprint QCC-J28/X.6
pins: 1 NC, 2 IN (in), 3 I/D (in), 4 I/D (in), 5 I/D (in), 6 I/D (in), 7 I/D (in), 8 NC, 9 I/D (in), 10 I/D (in), 11 I/D (in), 12 I/D (in), 13 I/D (in), 14 GND (power), 15 NC, 16 IN (in), 17 IN CLK (in), 18 OUT (out), 19 IO (io), 20 IO (io), 21 IO (io), 22 NC, 23 IO (io), 24 IO (io), 25 IO (io), 26 OUT (out), 27 IO (io), 28 VCC (power)

## p19l8t
designator U?
High-Performance Latched-Input PAL Circuits; Published: 16-Jul-2002; LatestRevisionDate: 17-Jul-2002; LatestRevisionNote: Re-released for DXP Platform.; Publisher: Altium Limited
footprint DIP-24/X1.5
pins: 1 IN (in), 2 I/D (in), 3 I/D (in), 4 I/D (in), 5 I/D (in), 6 I/D (in), 7 I/D (in), 8 I/D (in), 9 I/D (in), 10 I/D (in), 11 I/D (in), 12 GND (power), 13 IN (in), 14 CLK (in), 15 OUT (out), 16 IO (io), 17 IO (io), 18 IO (io), 19 IO (io), 20 IO (io), 21 IO (io), 22 OUT (out), 23 I/D (in), 24 VCC (power)

## p19l8tlcc
designator U?
High-Performance Registered-Input PAL Circuit; Published: 16-Jul-2002; LatestRevisionDate: 17-Jul-2002; LatestRevisionNote: Re-released for DXP Platform.; Publisher: Altium Limited
footprint QCC-J28/X.6
pins: 1 NC, 2 IN (in), 3 I/D (in), 4 I/D (in), 5 I/D (in), 6 I/D (in), 7 I/D (in), 8 NC, 9 I/D (in), 10 I/D (in), 11 I/D (in), 12 I/D (in), 13 I/D (in), 14 GND (power), 15 NC, 16 IN (in), 17 CLK (in), 18 OUT (out), 19 IO (io), 20 IO (io), 21 IO (io), 22 NC, 23 IO (io), 24 IO (io), 25 IO (io), 26 OUT (out), 27 I/D (in), 28 VCC (power)

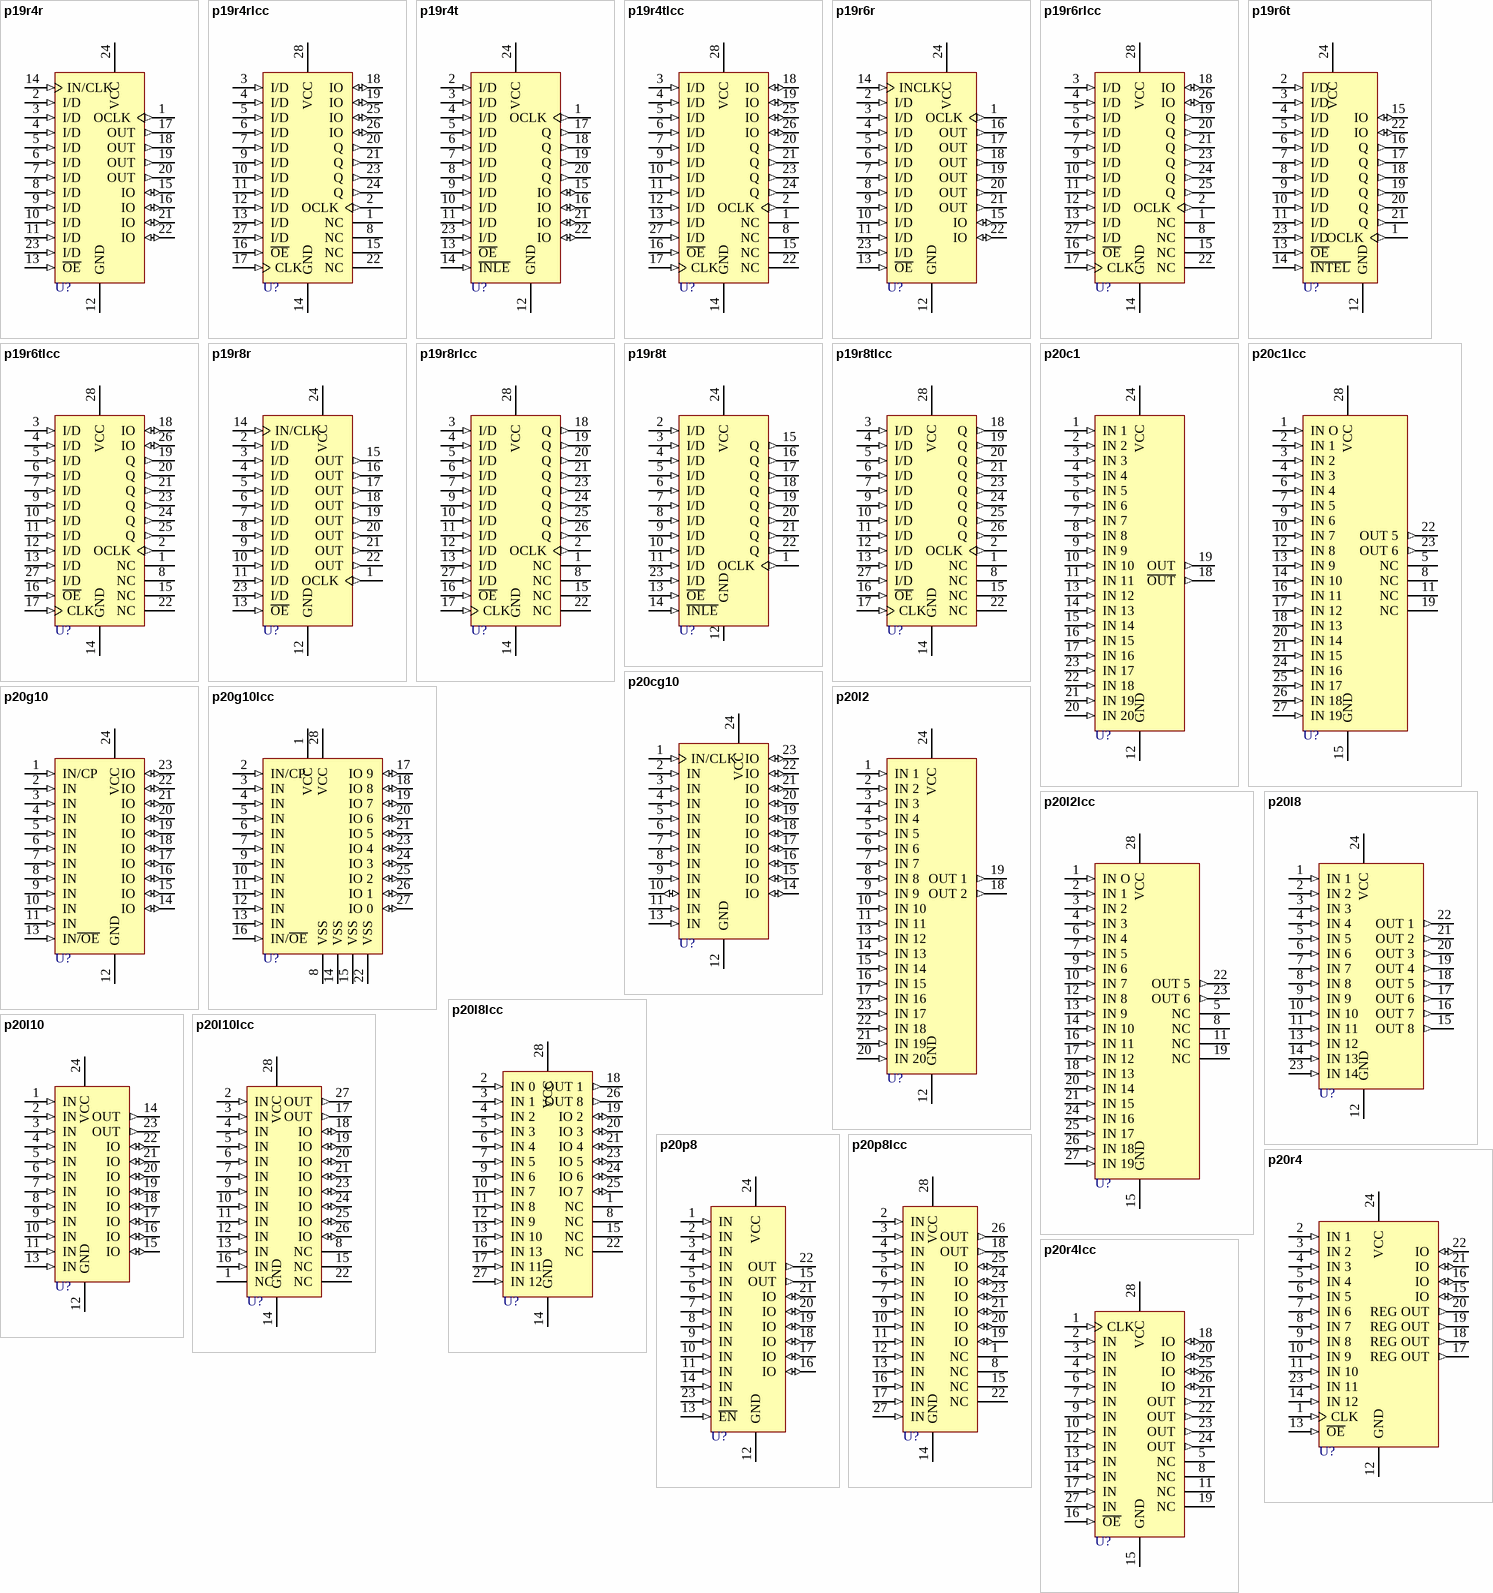
[diagram p9: symbols p19r4r to p20r4lcc]

## p19r4r
designator U?
High-Performance Registered-Input PAL Circuits; Published: 16-Jul-2002; LatestRevisionDate: 17-Jul-2002; LatestRevisionNote: Re-released for DXP Platform.; Publisher: Altium Limited
footprint DIP-24/X1.5
pins: 1 OCLK (out), 2 I/D (in), 3 I/D (in), 4 I/D (in), 5 I/D (in), 6 I/D (in), 7 I/D (in), 8 I/D (in), 9 I/D (in), 10 I/D (in), 11 I/D (in), 12 GND (power), 13 ~{OE} (in), 14 IN/CLK (in), 15 IO (io), 16 IO (io), 17 OUT (out), 18 OUT (out), 19 OUT (out), 20 OUT (out), 21 IO (io), 22 IO (io), 23 I/D (in), 24 VCC (power)

## p19r4rlcc
designator U?
High-Performance Registered-Input PAL Circuits; Published: 16-Jul-2002; LatestRevisionDate: 17-Jul-2002; LatestRevisionNote: Re-released for DXP Platform.; Publisher: Altium Limited
footprint QCC-J28/X.6
pins: 1 NC, 2 OCLK (out), 3 I/D (in), 4 I/D (in), 5 I/D (in), 6 I/D (in), 7 I/D (in), 8 NC, 9 I/D (in), 10 I/D (in), 11 I/D (in), 12 I/D (in), 13 I/D (in), 14 GND (power), 15 NC, 16 ~{OE} (in), 17 CLK (in), 18 IO (io), 19 IO (io), 20 Q (out), 21 Q (out), 22 NC, 23 Q (out), 24 Q (out), 25 IO (io), 26 IO (io), 27 I/D (in), 28 VCC (power)

## p19r4t
designator U?
High-Performance Latched-Input PAL Circuits; Published: 16-Jul-2002; LatestRevisionDate: 17-Jul-2002; LatestRevisionNote: Re-released for DXP Platform.; Publisher: Altium Limited
footprint DIP-24/X1.5
pins: 1 OCLK (out), 2 I/D (in), 3 I/D (in), 4 I/D (in), 5 I/D (in), 6 I/D (in), 7 I/D (in), 8 I/D (in), 9 I/D (in), 10 I/D (in), 11 I/D (in), 12 GND (power), 13 ~{OE} (in), 14 ~{INLE} (in), 15 IO (io), 16 IO (io), 17 Q (out), 18 Q (out), 19 Q (out), 20 Q (out), 21 IO (io), 22 IO (io), 23 I/D (in), 24 VCC (power)

## p19r4tlcc
designator U?
High-Performance Registered-Input PAL Circuit; Published: 16-Jul-2002; LatestRevisionDate: 17-Jul-2002; LatestRevisionNote: Re-released for DXP Platform.; Publisher: Altium Limited
footprint QCC-J28/X.6
pins: 1 NC, 2 OCLK (out), 3 I/D (in), 4 I/D (in), 5 I/D (in), 6 I/D (in), 7 I/D (in), 8 NC, 9 I/D (in), 10 I/D (in), 11 I/D (in), 12 I/D (in), 13 I/D (in), 14 GND (power), 15 NC, 16 ~{OE} (in), 17 CLK (in), 18 IO (io), 19 IO (io), 20 Q (out), 21 Q (out), 22 NC, 23 Q (out), 24 Q (out), 25 IO (io), 26 IO (io), 27 I/D (in), 28 VCC (power)

## p19r6r
designator U?
High-Performance Registered-Input PAL Circuits; Published: 16-Jul-2002; LatestRevisionDate: 17-Jul-2002; LatestRevisionNote: Re-released for DXP Platform.; Publisher: Altium Limited
footprint DIP-24/X1.5
pins: 1 OCLK (out), 2 I/D (in), 3 I/D (in), 4 I/D (in), 5 I/D (in), 6 I/D (in), 7 I/D (in), 8 I/D (in), 9 I/D (in), 10 I/D (in), 11 I/D (in), 12 GND (power), 13 ~{OE} (in), 14 INCLK (in), 15 IO (io), 16 OUT (out), 17 OUT (out), 18 OUT (out), 19 OUT (out), 20 OUT (out), 21 OUT (out), 22 IO (io), 23 I/D (in), 24 VCC (power)

## p19r6rlcc
designator U?
High-Performance Registered-Input PAL Circuit; Published: 16-Jul-2002; LatestRevisionDate: 17-Jul-2002; LatestRevisionNote: Re-released for DXP Platform.; Publisher: Altium Limited
footprint QCC-J28/X.6
pins: 1 NC, 2 OCLK (out), 3 I/D (in), 4 I/D (in), 5 I/D (in), 6 I/D (in), 7 I/D (in), 8 NC, 9 I/D (in), 10 I/D (in), 11 I/D (in), 12 I/D (in), 13 I/D (in), 14 GND (power), 15 NC, 16 ~{OE} (in), 17 CLK (in), 18 IO (io), 19 Q (out), 20 Q (out), 21 Q (out), 22 NC, 23 Q (out), 24 Q (out), 25 Q (out), 26 IO (io), 27 I/D (in), 28 VCC (power)

## p19r6t
designator U?
High-Performance Latched-Input PAL Circuits; Published: 16-Jul-2002; LatestRevisionDate: 17-Jul-2002; LatestRevisionNote: Re-released for DXP Platform.; Publisher: Altium Limited
footprint DIP-24/X1.5
pins: 1 OCLK (out), 2 I/D (in), 3 I/D (in), 4 I/D (in), 5 I/D (in), 6 I/D (in), 7 I/D (in), 8 I/D (in), 9 I/D (in), 10 I/D (in), 11 I/D (in), 12 GND (power), 13 ~{OE} (in), 14 ~{INTEL} (in), 15 IO (io), 16 Q (out), 17 Q (out), 18 Q (out), 19 Q (out), 20 Q (out), 21 Q (out), 22 IO (io), 23 I/D (in), 24 VCC (power)

## p19r6tlcc
designator U?
High-Performance Registered-Input PAL Circuit; Published: 16-Jul-2002; LatestRevisionDate: 17-Jul-2002; LatestRevisionNote: Re-released for DXP Platform.; Publisher: Altium Limited
footprint QCC-J28/X.6
pins: 1 NC, 2 OCLK (out), 3 I/D (in), 4 I/D (in), 5 I/D (in), 6 I/D (in), 7 I/D (in), 8 NC, 9 I/D (in), 10 I/D (in), 11 I/D (in), 12 I/D (in), 13 I/D (in), 14 GND (power), 15 NC, 16 ~{OE} (in), 17 CLK (in), 18 IO (io), 19 Q (out), 20 Q (out), 21 Q (out), 22 NC, 23 Q (out), 24 Q (out), 25 Q (out), 26 IO (io), 27 I/D (in), 28 VCC (power)

## p19r8r
designator U?
High-Performance Registered-Input PAL Circuits; Published: 16-Jul-2002; LatestRevisionDate: 17-Jul-2002; LatestRevisionNote: Re-released for DXP Platform.; Publisher: Altium Limited
footprint DIP-24/X1.5
pins: 1 OCLK (out), 2 I/D (in), 3 I/D (in), 4 I/D (in), 5 I/D (in), 6 I/D (in), 7 I/D (in), 8 I/D (in), 9 I/D (in), 10 I/D (in), 11 I/D (in), 12 GND (power), 13 ~{OE} (in), 14 IN/CLK (in), 15 OUT (out), 16 OUT (out), 17 OUT (out), 18 OUT (out), 19 OUT (out), 20 OUT (out), 21 OUT (out), 22 OUT (out), 23 I/D (in), 24 VCC (power)

## p19r8rlcc
designator U?
High-Performance Registered-Input PAL Circuit; Published: 16-Jul-2002; LatestRevisionDate: 17-Jul-2002; LatestRevisionNote: Re-released for DXP Platform.; Publisher: Altium Limited
footprint QCC-J28/X.6
pins: 1 NC, 2 OCLK (out), 3 I/D (in), 4 I/D (in), 5 I/D (in), 6 I/D (in), 7 I/D (in), 8 NC, 9 I/D (in), 10 I/D (in), 11 I/D (in), 12 I/D (in), 13 I/D (in), 14 GND (power), 15 NC, 16 ~{OE} (in), 17 CLK (in), 18 Q (out), 19 Q (out), 20 Q (out), 21 Q (out), 22 NC, 23 Q (out), 24 Q (out), 25 Q (out), 26 Q (out), 27 I/D (in), 28 VCC (power)

## p19r8t
designator U?
High-Performance Latched-Input PAL Circuits; Published: 16-Jul-2002; LatestRevisionDate: 17-Jul-2002; LatestRevisionNote: Re-released for DXP Platform.; Publisher: Altium Limited
footprint DIP-24/X1.5
pins: 1 OCLK (out), 2 I/D (in), 3 I/D (in), 4 I/D (in), 5 I/D (in), 6 I/D (in), 7 I/D (in), 8 I/D (in), 9 I/D (in), 10 I/D (in), 11 I/D (in), 12 GND (power), 13 ~{OE} (in), 14 ~{INLE} (in), 15 Q (out), 16 Q (out), 17 Q (out), 18 Q (out), 19 Q (out), 20 Q (out), 21 Q (out), 22 Q (out), 23 I/D (in), 24 VCC (power)

## p19r8tlcc
designator U?
High-Performance Registered-Input PAL Circuit; Published: 16-Jul-2002; LatestRevisionDate: 17-Jul-2002; LatestRevisionNote: Re-released for DXP Platform.; Publisher: Altium Limited
footprint QCC-J28/X.6
pins: 1 NC, 2 OCLK (out), 3 I/D (in), 4 I/D (in), 5 I/D (in), 6 I/D (in), 7 I/D (in), 8 NC, 9 I/D (in), 10 I/D (in), 11 I/D (in), 12 I/D (in), 13 I/D (in), 14 GND (power), 15 NC, 16 ~{OE} (in), 17 CLK (in), 18 Q (out), 19 Q (out), 20 Q (out), 21 Q (out), 22 NC, 23 Q (out), 24 Q (out), 25 Q (out), 26 Q (out), 27 I/D (in), 28 VCC (power)

## p20c1
designator U?
Combinational Logic with No Feedback; Published: 16-Jul-2002; LatestRevisionDate: 17-Jul-2002; LatestRevisionNote: Re-released for DXP Platform.; Publisher: Altium Limited
footprint DIP-24/X1.5
pins: 1 IN 1 (in), 2 IN 2 (in), 3 IN 3 (in), 4 IN 4 (in), 5 IN 5 (in), 6 IN 6 (in), 7 IN 7 (in), 8 IN 8 (in), 9 IN 9 (in), 10 IN 10 (in), 11 IN 11 (in), 12 GND (power), 13 IN 12 (in), 14 IN 13 (in), 15 IN 14 (in), 16 IN 15 (in), 17 IN 16 (in), 18 ~{OUT} (out), 19 OUT (out), 20 IN 20 (in), 21 IN 19 (in), 22 IN 18 (in), 23 IN 17 (in), 24 VCC (power)

## p20c1lcc
designator U?
Combinational Logic with No Feedback; Published: 16-Jul-2002; LatestRevisionDate: 17-Jul-2002; LatestRevisionNote: Re-released for DXP Platform.; Publisher: Altium Limited
footprint QCC-J28/X.6
pins: 1 IN O (in), 2 IN 1 (in), 3 IN 2 (in), 4 IN 3 (in), 5 NC, 6 IN 4 (in), 7 IN 5 (in), 8 NC, 9 IN 6 (in), 10 IN 7 (in), 11 NC, 12 IN 8 (in), 13 IN 9 (in), 14 IN 10 (in), 15 GND (power), 16 IN 11 (in), 17 IN 12 (in), 18 IN 13 (in), 19 NC, 20 IN 14 (in), 21 IN 15 (in), 22 OUT 5 (out), 23 OUT 6 (out), 24 IN 16 (in), 25 IN 17 (in), 26 IN 18 (in), 27 IN 19 (in), 28 VCC (power)

## p20cg10
designator U?
CMOS Programmable Electrically Erasable Logic Device; Published: 16-Jul-2002; LatestRevisionDate: 17-Jul-2002; LatestRevisionNote: Re-released for DXP Platform.; Publisher: Altium Limited
pins: 1 IN/CLK (in), 2 IN (in), 3 IN (in), 4 IN (in), 5 IN (in), 6 IN (in), 7 IN (in), 8 IN (in), 9 IN (in), 10 IN (io), 11 IN (in), 12 GND (power), 13 IN (in), 14 IO (io), 15 IO (io), 16 IO (io), 17 IO (io), 18 IO (io), 19 IO (io), 20 IO (io), 21 IO (io), 22 IO (io), 23 IO (io), 24 VCC (power)

## p20g10
designator U?
Generic 24-Pin PAL Device; Published: 16-Jul-2002; LatestRevisionDate: 17-Jul-2002; LatestRevisionNote: Re-released for DXP Platform.; Publisher: Altium Limited
pins: 1 IN/CP (in), 2 IN (in), 3 IN (in), 4 IN (in), 5 IN (in), 6 IN (in), 7 IN (in), 8 IN (in), 9 IN (in), 10 IN (in), 11 IN (in), 12 GND (power), 13 IN~{/OE} (in), 14 IO (io), 15 IO (io), 16 IO (io), 17 IO (io), 18 IO (io), 19 IO (io), 20 IO (io), 21 IO (io), 22 IO (io), 23 IO (io), 24 VCC (power)

## p20g10lcc
designator U?
Generic PAL Device; Published: 16-Jul-2002; LatestRevisionDate: 17-Jul-2002; LatestRevisionNote: Re-released for DXP Platform.; Publisher: Altium Limited
pins: 1 VCC (power), 2 IN/CP (in), 3 IN (in), 4 IN (in), 5 IN (in), 6 IN (in), 7 IN (in), 8 VSS (power), 9 IN (in), 10 IN (in), 11 IN (in), 12 IN (in), 13 IN (in), 14 VSS (power), 15 VSS (power), 16 IN/~{OE} (in), 17 IO 9 (io), 18 IO 8 (io), 19 IO 7 (io), 20 IO 6 (io), 21 IO 5 (io), 22 VSS (power), 23 IO 4 (io), 24 IO 3 (io), 25 IO 2 (io), 26 IO 1 (io), 27 IO 0 (io), 28 VCC (power)

## p20l2
designator U?
7.5ns 24-Pin TTL PAL; Published: 16-Jul-2002; LatestRevisionDate: 17-Jul-2002; LatestRevisionNote: Re-released for DXP Platform.; Publisher: Altium Limited
footprint DIP-24/X1.5
pins: 1 IN 1 (in), 2 IN 2 (in), 3 IN 3 (in), 4 IN 4 (in), 5 IN 5 (in), 6 IN 6 (in), 7 IN 7 (in), 8 IN 8 (in), 9 IN 9 (in), 10 IN 10 (in), 11 IN 11 (in), 12 GND (power), 13 IN 12 (in), 14 IN 13 (in), 15 IN 14 (in), 16 IN 15 (in), 17 IN 16 (in), 18 OUT 2 (out), 19 OUT 1 (out), 20 IN 20 (in), 21 IN 19 (in), 22 IN 18 (in), 23 IN 17 (in), 24 VCC (power)

## p20l2lcc
designator U?
Combinational Logic with No Feedback; Published: 16-Jul-2002; LatestRevisionDate: 17-Jul-2002; LatestRevisionNote: Re-released for DXP Platform.; Publisher: Altium Limited
footprint QCC-J28/X.6
pins: 1 IN O (in), 2 IN 1 (in), 3 IN 2 (in), 4 IN 3 (in), 5 NC, 6 IN 4 (in), 7 IN 5 (in), 8 NC, 9 IN 6 (in), 10 IN 7 (in), 11 NC, 12 IN 8 (in), 13 IN 9 (in), 14 IN 10 (in), 15 GND (power), 16 IN 11 (in), 17 IN 12 (in), 18 IN 13 (in), 19 NC, 20 IN 14 (in), 21 IN 15 (in), 22 OUT 5 (out), 23 OUT 6 (out), 24 IN 16 (in), 25 IN 17 (in), 26 IN 18 (in), 27 IN 19 (in), 28 VCC (power)

## p20l8
designator U?
7.5ns 24-Pin TTL PAL; Published: 16-Jul-2002; LatestRevisionDate: 17-Jul-2002; LatestRevisionNote: Re-released for DXP Platform.; Publisher: Altium Limited
footprint DIP-24/X1.5
pins: 1 IN 1 (in), 2 IN 2 (in), 3 IN 3 (in), 4 IN 4 (in), 5 IN 5 (in), 6 IN 6 (in), 7 IN 7 (in), 8 IN 8 (in), 9 IN 9 (in), 10 IN 10 (in), 11 IN 11 (in), 12 GND (power), 13 IN 12 (in), 14 IN 13 (in), 15 OUT 8 (out), 16 OUT 7 (out), 17 OUT 6 (out), 18 OUT 5 (out), 19 OUT 4 (out), 20 OUT 3 (out), 21 OUT 2 (out), 22 OUT 1 (out), 23 IN 14 (in), 24 VCC (power)

## p20l8lcc
designator U?
7.5ns 24-Pin TTL Programmable Array Logic; Published: 16-Jul-2002; LatestRevisionDate: 17-Jul-2002; LatestRevisionNote: Re-released for DXP Platform.; Publisher: Altium Limited
footprint QCC-J28/X.6
pins: 1 NC, 2 IN 0 (in), 3 IN 1 (in), 4 IN 2 (in), 5 IN 3 (in), 6 IN 4 (in), 7 IN 5 (in), 8 NC, 9 IN 6 (in), 10 IN 7 (in), 11 IN 8 (in), 12 IN 9 (in), 13 IN 10 (in), 14 GND (power), 15 NC, 16 IN 13 (in), 17 IN 11 (in), 18 OUT 1 (out), 19 IO 2 (io), 20 IO 3 (io), 21 IO 4 (io), 22 NC, 23 IO 5 (io), 24 IO 6 (io), 25 IO 7 (io), 26 OUT 8 (out), 27 IN 12 (in), 28 VCC (power)

## p20l10
designator U?
XOR Registered 24-Pin TTL PAL; Published: 16-Jul-2002; LatestRevisionDate: 17-Jul-2002; LatestRevisionNote: Re-released for DXP Platform.; Publisher: Altium Limited
footprint DIP-24/X1.5
pins: 1 IN (in), 2 IN (in), 3 IN (in), 4 IN (in), 5 IN (in), 6 IN (in), 7 IN (in), 8 IN (in), 9 IN (in), 10 IN (in), 11 IN (in), 12 GND (power), 13 IN (in), 14 OUT (out), 15 IO (io), 16 IO (io), 17 IO (io), 18 IO (io), 19 IO (io), 20 IO (io), 21 IO (io), 22 IO (io), 23 OUT (out), 24 VCC (power)

## p20l10lcc
designator U?
XOR Registered 24-Pin TTL Programmable Array Logic; Published: 16-Jul-2002; LatestRevisionDate: 17-Jul-2002; LatestRevisionNote: Re-released for DXP Platform.; Publisher: Altium Limited
footprint QCC-J28/X.6
pins: 1 NC, 2 IN (in), 3 IN (in), 4 IN (in), 5 IN (in), 6 IN (in), 7 IN (in), 8 NC, 9 IN (in), 10 IN (in), 11 IN (in), 12 IN (in), 13 IN (in), 14 GND (power), 15 NC, 16 IN (in), 17 OUT (out), 18 IO (io), 19 IO (io), 20 IO (io), 21 IO (io), 22 NC, 23 IO (io), 24 IO (io), 25 IO (io), 26 IO (io), 27 OUT (out), 28 VCC (power)

## p20p8
designator U?
24-Pin Polarity PAL Family; Published: 16-Jul-2002; LatestRevisionDate: 17-Jul-2002; LatestRevisionNote: Re-released for DXP Platform.; Publisher: Altium Limited
footprint DIP-24/X1.5
pins: 1 IN (in), 2 IN (in), 3 IN (in), 4 IN (in), 5 IN (in), 6 IN (in), 7 IN (in), 8 IN (in), 9 IN (in), 10 IN (in), 11 IN (in), 12 GND (power), 13 ~{EN} (in), 14 IN (in), 15 OUT (out), 16 IO (io), 17 IO (io), 18 IO (io), 19 IO (io), 20 IO (io), 21 IO (io), 22 OUT (out), 23 IN (in), 24 VCC (power)

## p20p8lcc
designator U?
Polarity PAL Family; Published: 16-Jul-2002; LatestRevisionDate: 17-Jul-2002; LatestRevisionNote: Re-released for DXP Platform.; Publisher: Altium Limited
footprint QCC-J28/X.6
pins: 1 NC, 2 IN (in), 3 IN (in), 4 IN (in), 5 IN (in), 6 IN (in), 7 IN (in), 8 NC, 9 IN (in), 10 IN (in), 11 IN (in), 12 IN (in), 13 IN (in), 14 GND (power), 15 NC, 16 IN (in), 17 IN (in), 18 OUT (out), 19 IO (io), 20 IO (io), 21 IO (io), 22 NC, 23 IO (io), 24 IO (io), 25 IO (io), 26 OUT (out), 27 IN (in), 28 VCC (power)

## p20r4
designator U?
7.5ns 24-Pin TTL PAL; Published: 16-Jul-2002; LatestRevisionDate: 17-Jul-2002; LatestRevisionNote: Re-released for DXP Platform.; Publisher: Altium Limited
footprint DIP-24/X1.5
pins: 1 CLK (in), 2 IN 1 (in), 3 IN 2 (in), 4 IN 3 (in), 5 IN 4 (in), 6 IN 5 (in), 7 IN 6 (in), 8 IN 7 (in), 9 IN 8 (in), 10 IN 9 (in), 11 IN 10 (in), 12 GND (power), 13 ~{OE} (in), 14 IN 12 (in), 15 IO (io), 16 IO (io), 17 REG OUT (out), 18 REG OUT (out), 19 REG OUT (out), 20 REG OUT (out), 21 IO (io), 22 IO (io), 23 IN 11 (in), 24 VCC (power)

## p20r4lcc
designator U?
TTL Programable Array Logic; Published: 16-Jul-2002; LatestRevisionDate: 17-Jul-2002; LatestRevisionNote: Re-released for DXP Platform.; Publisher: Altium Limited
footprint QCC-J28/X.6
pins: 1 CLK (in), 2 IN (in), 3 IN (in), 4 IN (in), 5 NC, 6 IN (in), 7 IN (in), 8 NC, 9 IN (in), 10 IN (in), 11 NC, 12 IN (in), 13 IN (in), 14 IN (in), 15 GND (power), 16 ~{OE} (in), 17 IN (in), 18 IO (io), 19 NC, 20 IO (io), 21 OUT (out), 22 OUT (out), 23 OUT (out), 24 OUT (out), 25 IO (io), 26 IO (io), 27 IN (in), 28 VCC (power)

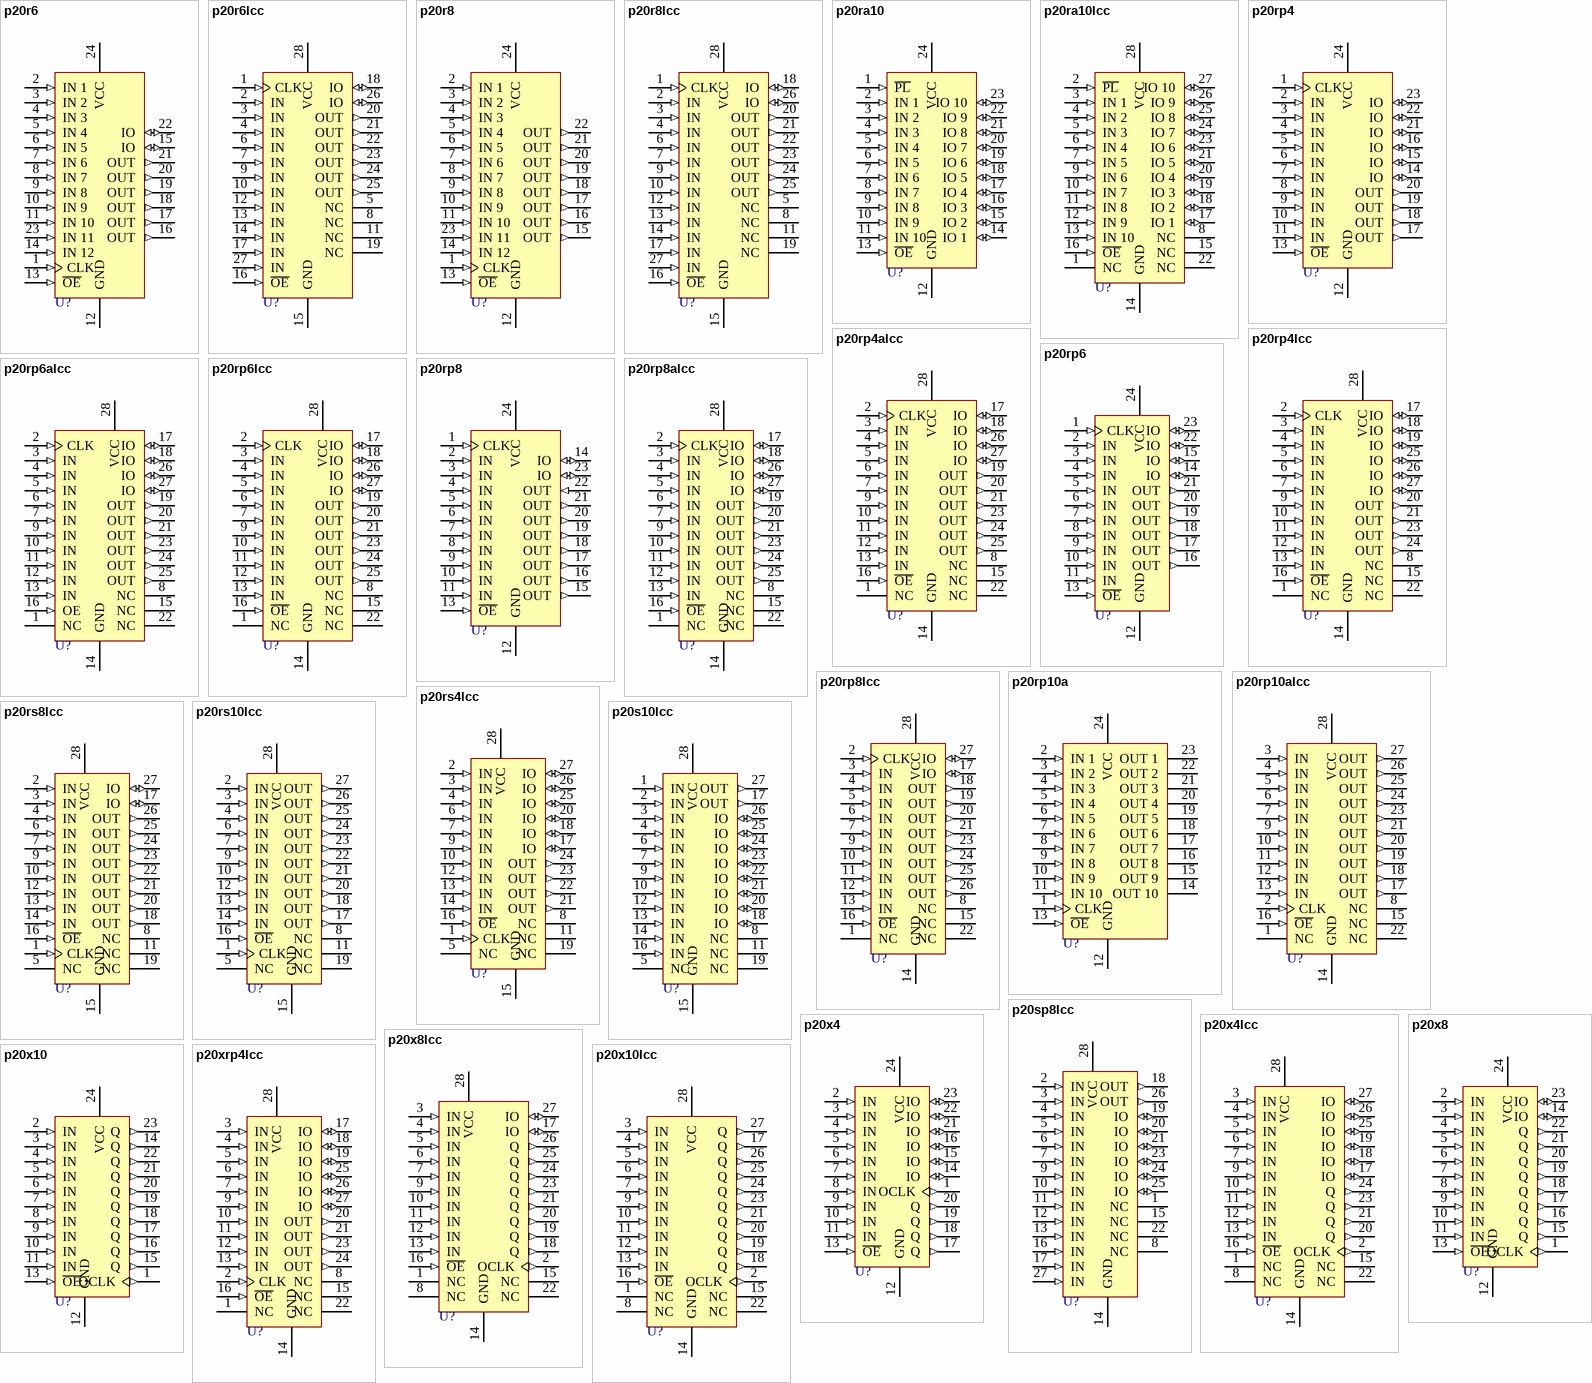
[diagram p10: symbols p20r6 to p20xrp4lcc]

## p20r6
designator U?
7.5ns 24-Pin TTL PAL; Published: 16-Jul-2002; LatestRevisionDate: 17-Jul-2002; LatestRevisionNote: Re-released for DXP Platform.; Publisher: Altium Limited
footprint DIP-24/X1.5
pins: 1 CLK (in), 2 IN 1 (in), 3 IN 2 (in), 4 IN 3 (in), 5 IN 4 (in), 6 IN 5 (in), 7 IN 6 (in), 8 IN 7 (in), 9 IN 8 (in), 10 IN 9 (in), 11 IN 10 (in), 12 GND (power), 13 ~{OE} (in), 14 IN 12 (in), 15 IO (io), 16 OUT (out), 17 OUT (out), 18 OUT (out), 19 OUT (out), 20 OUT (out), 21 OUT (out), 22 IO (io), 23 IN 11 (in), 24 VCC (power)

## p20r6lcc
designator U?
TTL Programable Array Logic; Published: 16-Jul-2002; LatestRevisionDate: 17-Jul-2002; LatestRevisionNote: Re-released for DXP Platform.; Publisher: Altium Limited
footprint QCC-J28/X.6
pins: 1 CLK (in), 2 IN (in), 3 IN (in), 4 IN (in), 5 NC, 6 IN (in), 7 IN (in), 8 NC, 9 IN (in), 10 IN (in), 11 NC, 12 IN (in), 13 IN (in), 14 IN (in), 15 GND (power), 16 ~{OE} (in), 17 IN (in), 18 IO (io), 19 NC, 20 OUT (out), 21 OUT (out), 22 OUT (out), 23 OUT (out), 24 OUT (out), 25 OUT (out), 26 IO (io), 27 IN (in), 28 VCC (power)

## p20r8
designator U?
7.5ns 24-Pin TTL PAL; Published: 16-Jul-2002; LatestRevisionDate: 17-Jul-2002; LatestRevisionNote: Re-released for DXP Platform.; Publisher: Altium Limited
footprint DIP-24/X1.5
pins: 1 CLK (in), 2 IN 1 (in), 3 IN 2 (in), 4 IN 3 (in), 5 IN 4 (in), 6 IN 5 (in), 7 IN 6 (in), 8 IN 7 (in), 9 IN 8 (in), 10 IN 9 (in), 11 IN 10 (in), 12 GND (power), 13 ~{OE} (in), 14 IN 12 (in), 15 OUT (out), 16 OUT (out), 17 OUT (out), 18 OUT (out), 19 OUT (out), 20 OUT (out), 21 OUT (out), 22 OUT (out), 23 IN 11 (in), 24 VCC (power)

## p20r8lcc
designator U?
TTL Programable Array Logic; Published: 16-Jul-2002; LatestRevisionDate: 17-Jul-2002; LatestRevisionNote: Re-released for DXP Platform.; Publisher: Altium Limited
footprint QCC-J28/X.6
pins: 1 CLK (in), 2 IN (in), 3 IN (in), 4 IN (in), 5 NC, 6 IN (in), 7 IN (in), 8 NC, 9 IN (in), 10 IN (in), 11 NC, 12 IN (in), 13 IN (in), 14 IN (in), 15 GND (power), 16 ~{OE} (in), 17 IN (in), 18 IO (io), 19 NC, 20 OUT (out), 21 OUT (out), 22 OUT (out), 23 OUT (out), 24 OUT (out), 25 OUT (out), 26 IO (io), 27 IN (in), 28 VCC (power)

## p20ra10
designator U?
24-Pin Asynchronous TTL PAL; Published: 16-Jul-2002; LatestRevisionDate: 17-Jul-2002; LatestRevisionNote: Re-released for DXP Platform.; Publisher: Altium Limited
footprint DIP-24/X1.5
pins: 1 ~{PL} (in), 2 IN 1 (in), 3 IN 2 (in), 4 IN 3 (in), 5 IN 4 (in), 6 IN 5 (in), 7 IN 6 (in), 8 IN 7 (in), 9 IN 8 (in), 10 IN 9 (in), 11 IN 10 (in), 12 GND (power), 13 ~{OE} (in), 14 IO 1 (io), 15 IO 2 (io), 16 IO 3 (io), 17 IO 4 (io), 18 IO 5 (io), 19 IO 6 (io), 20 IO 7 (io), 21 IO 8 (io), 22 IO 9 (io), 23 IO 10 (io), 24 VCC (power)

## p20ra10lcc
designator U?
High-Speed Asynchronous E2 CMOS PAL; Published: 16-Jul-2002; LatestRevisionDate: 17-Jul-2002; LatestRevisionNote: Re-released for DXP Platform.; Publisher: Altium Limited
footprint QCC-J28/X.6
pins: 1 NC, 2 ~{PL} (in), 3 IN 1 (in), 4 IN 2 (in), 5 IN 3 (in), 6 IN 4 (in), 7 IN 5 (in), 8 NC, 9 IN 6 (in), 10 IN 7 (in), 11 IN 8 (in), 12 IN 9 (in), 13 IN 10 (in), 14 GND (power), 15 NC, 16 ~{OE} (in), 17 IO 1 (io), 18 IO 2 (io), 19 IO 3 (io), 20 IO 4 (io), 21 IO 5 (io), 22 NC, 23 IO 6 (io), 24 IO 7 (io), 25 IO 8 (io), 26 IO 9 (io), 27 IO 10 (io), 28 VCC (power)

## p20rp4
designator U?
24-Pin IMOX PAL Elements; Published: 16-Jul-2002; LatestRevisionDate: 17-Jul-2002; LatestRevisionNote: Re-released for DXP Platform.; Publisher: Altium Limited
footprint DIP-24/X1.5
pins: 1 CLK (in), 2 IN (in), 3 IN (in), 4 IN (in), 5 IN (in), 6 IN (in), 7 IN (in), 8 IN (in), 9 IN (in), 10 IN (in), 11 IN (in), 12 GND (power), 13 ~{OE} (in), 14 IO (io), 15 IO (io), 16 IO (io), 17 OUT (out), 18 OUT (out), 19 OUT (out), 20 OUT (out), 21 IO (io), 22 IO (io), 23 IO (io), 24 VCC (power)

## p20rp4alcc
designator U?
IMOX PAL Elements; Published: 16-Jul-2002; LatestRevisionDate: 17-Jul-2002; LatestRevisionNote: Re-released for DXP Platform.; Publisher: Altium Limited
pins: 1 NC, 2 CLK (in), 3 IN (in), 4 IN (in), 5 IN (in), 6 IN (in), 7 IN (in), 8 NC, 9 IN (in), 10 IN (in), 11 IN (in), 12 IN (in), 13 IN (in), 14 GND (power), 15 NC, 16 ~{OE} (in), 17 IO (io), 18 IO (io), 19 OUT (out), 20 OUT (out), 21 OUT (out), 22 NC, 23 OUT (out), 24 OUT (out), 25 OUT (out), 26 IO (io), 27 IO (io), 28 VCC (power)

## p20rp4lcc
designator U?
IMOX PAL Elements; Published: 16-Jul-2002; LatestRevisionDate: 17-Jul-2002; LatestRevisionNote: Re-released for DXP Platform.; Publisher: Altium Limited
footprint QCC-J28/X.6
pins: 1 NC, 2 CLK (in), 3 IN (in), 4 IN (in), 5 IN (in), 6 IN (in), 7 IN (in), 8 NC, 9 IN (in), 10 IN (in), 11 IN (in), 12 IN (in), 13 IN (in), 14 GND (power), 15 NC, 16 ~{OE} (in), 17 IO (io), 18 IO (io), 19 IO (io), 20 OUT (out), 21 OUT (out), 22 NC, 23 OUT (out), 24 OUT (out), 25 IO (io), 26 IO (io), 27 IO (io), 28 VCC (power)

## p20rp6
designator U?
24-Pin IMOX PAL Elements; Published: 16-Jul-2002; LatestRevisionDate: 17-Jul-2002; LatestRevisionNote: Re-released for DXP Platform.; Publisher: Altium Limited
footprint DIP-24/X1.5
pins: 1 CLK (in), 2 IN (in), 3 IN (in), 4 IN (in), 5 IN (in), 6 IN (in), 7 IN (in), 8 IN (in), 9 IN (in), 10 IN (in), 11 IN (in), 12 GND (power), 13 ~{OE} (in), 14 IO (io), 15 IO (io), 16 OUT (out), 17 OUT (out), 18 OUT (out), 19 OUT (out), 20 OUT (out), 21 OUT (out), 22 IO (io), 23 IO (io), 24 VCC (power)

## p20rp6alcc
designator U?
IMOX PAL Elements; Published: 16-Jul-2002; LatestRevisionDate: 17-Jul-2002; LatestRevisionNote: Re-released for DXP Platform.; Publisher: Altium Limited
pins: 1 NC, 2 CLK (in), 3 IN (in), 4 IN (in), 5 IN (in), 6 IN (in), 7 IN (in), 8 NC, 9 IN (in), 10 IN (in), 11 IN (in), 12 IN (in), 13 IN (in), 14 GND (power), 15 NC, 16 OE (in), 17 IO (io), 18 IO (io), 19 OUT (out), 20 OUT (out), 21 OUT (out), 22 NC, 23 OUT (out), 24 OUT (out), 25 OUT (out), 26 IO (io), 27 IO (io), 28 VCC (power)

## p20rp6lcc
designator U?
IMOX PAL Elements; Published: 16-Jul-2002; LatestRevisionDate: 17-Jul-2002; LatestRevisionNote: Re-released for DXP Platform.; Publisher: Altium Limited
footprint QCC-J28/X.6
pins: 1 NC, 2 CLK (in), 3 IN (in), 4 IN (in), 5 IN (in), 6 IN (in), 7 IN (in), 8 NC, 9 IN (in), 10 IN (in), 11 IN (in), 12 IN (in), 13 IN (in), 14 GND (power), 15 NC, 16 ~{OE} (in), 17 IO (io), 18 IO (io), 19 OUT (out), 20 OUT (out), 21 OUT (out), 22 NC, 23 OUT (out), 24 OUT (out), 25 OUT (out), 26 IO (io), 27 IO (io), 28 VCC (power)

## p20rp8
designator U?
24-Pin IMOX PAL Elements; Published: 16-Jul-2002; LatestRevisionDate: 17-Jul-2002; LatestRevisionNote: Re-released for DXP Platform.; Publisher: Altium Limited
footprint DIP-24/X1.5
pins: 1 CLK (in), 2 IN (in), 3 IN (in), 4 IN (in), 5 IN (in), 6 IN (in), 7 IN (in), 8 IN (in), 9 IN (in), 10 IN (in), 11 IN (in), 12 GND (power), 13 ~{OE} (in), 14 IO (io), 15 OUT (out), 16 OUT (out), 17 OUT (out), 18 OUT (out), 19 OUT (out), 20 OUT (out), 21 OUT (out), 22 OUT (in), 23 IO (io), 24 VCC (power)

## p20rp8alcc
designator U?
High-Performance E2CMOS PLD Generic Array Logic; Published: 16-Jul-2002; LatestRevisionDate: 17-Jul-2002; LatestRevisionNote: Re-released for DXP Platform.; Publisher: Altium Limited
pins: 1 NC, 2 CLK (in), 3 IN (in), 4 IN (in), 5 IN (in), 6 IN (in), 7 IN (in), 8 NC, 9 IN (in), 10 IN (in), 11 IN (in), 12 IN (in), 13 IN (in), 14 GND (power), 15 NC, 16 ~{OE} (in), 17 IO (io), 18 IO (io), 19 OUT (out), 20 OUT (out), 21 OUT (out), 22 NC, 23 OUT (out), 24 OUT (out), 25 OUT (out), 26 IO (io), 27 IO (io), 28 VCC (power)

## p20rp8lcc
designator U?
IMOX PAL Elements; Published: 16-Jul-2002; LatestRevisionDate: 17-Jul-2002; LatestRevisionNote: Re-released for DXP Platform.; Publisher: Altium Limited
footprint QCC-J28/X.6
pins: 1 NC, 2 CLK (in), 3 IN (in), 4 IN (in), 5 IN (in), 6 IN (in), 7 IN (in), 8 NC, 9 IN (in), 10 IN (in), 11 IN (in), 12 IN (in), 13 IN (in), 14 GND (power), 15 NC, 16 ~{OE} (in), 17 IO (io), 18 OUT (out), 19 OUT (out), 20 OUT (out), 21 OUT (out), 22 NC, 23 OUT (out), 24 OUT (out), 25 OUT (out), 26 OUT (out), 27 IO (io), 28 VCC (power)

## p20rp10a
designator U?
24-Pin Enhanced AmPAL20RP10 Family; Published: 16-Jul-2002; LatestRevisionDate: 17-Jul-2002; LatestRevisionNote: Re-released for DXP Platform.; Publisher: Altium Limited
pins: 1 CLK (in), 2 IN 1 (in), 3 IN 2 (in), 4 IN 3 (in), 5 IN 4 (in), 6 IN 5 (in), 7 IN 6 (in), 8 IN 7 (in), 9 IN 8 (in), 10 IN 9 (in), 11 IN 10 (in), 12 GND (power), 13 ~{OE} (in), 14 OUT 10 (hiz), 15 OUT 9 (hiz), 16 OUT 8 (hiz), 17 OUT 7 (hiz), 18 OUT 6 (hiz), 19 OUT 5 (hiz), 20 OUT 4 (hiz), 21 OUT 3 (hiz), 22 OUT 2 (hiz), 23 OUT 1 (hiz), 24 VCC (power)

## p20rp10alcc
designator U?
Enhanced AmPAL20RP10 Family; Published: 16-Jul-2002; LatestRevisionDate: 17-Jul-2002; LatestRevisionNote: Re-released for DXP Platform.; Publisher: Altium Limited
pins: 1 NC, 2 CLK (in), 3 IN (in), 4 IN (in), 5 IN (in), 6 IN (in), 7 IN (in), 8 NC, 9 IN (in), 10 IN (in), 11 IN (in), 12 IN (in), 13 IN (in), 14 GND (power), 15 NC, 16 ~{OE} (in), 17 OUT (out), 18 OUT (out), 19 OUT (out), 20 OUT (out), 21 OUT (out), 22 NC, 23 OUT (out), 24 OUT (out), 25 OUT (out), 26 OUT (out), 27 OUT (out), 28 VCC (power)

## p20rs4lcc
designator U?
Polarity PAL Family; Published: 16-Jul-2002; LatestRevisionDate: 17-Jul-2002; LatestRevisionNote: Re-released for DXP Platform.; Publisher: Altium Limited
pins: 1 CLK (in), 2 IN (in), 3 IN (in), 4 IN (in), 5 NC, 6 IN (in), 7 IN (in), 8 NC, 9 IN (in), 10 IN (in), 11 NC, 12 IN (in), 13 IN (in), 14 IN (in), 15 GND (power), 16 ~{OE} (in), 17 IO (io), 18 IO (io), 19 NC, 20 IO (io), 21 OUT (out), 22 OUT (out), 23 OUT (out), 24 OUT (out), 25 IO (io), 26 IO (io), 27 IO (io), 28 VCC (power)

## p20rs8lcc
designator U?
Polarity PAL Family; Published: 16-Jul-2002; LatestRevisionDate: 17-Jul-2002; LatestRevisionNote: Re-released for DXP Platform.; Publisher: Altium Limited
pins: 1 CLK (in), 2 IN (in), 3 IN (in), 4 IN (in), 5 NC, 6 IN (in), 7 IN (in), 8 NC, 9 IN (in), 10 IN (in), 11 NC, 12 IN (in), 13 IN (in), 14 IN (in), 15 GND (power), 16 ~{OE} (in), 17 IO (io), 18 OUT (out), 19 NC, 20 OUT (out), 21 OUT (out), 22 OUT (out), 23 OUT (out), 24 OUT (out), 25 OUT (out), 26 OUT (out), 27 IO (io), 28 VCC (power)

## p20rs10lcc
designator U?
Polarity PAL Family; Published: 16-Jul-2002; LatestRevisionDate: 17-Jul-2002; LatestRevisionNote: Re-released for DXP Platform.; Publisher: Altium Limited
pins: 1 CLK (in), 2 IN (in), 3 IN (in), 4 IN (in), 5 NC, 6 IN (in), 7 IN (in), 8 NC, 9 IN (in), 10 IN (in), 11 NC, 12 IN (in), 13 IN (in), 14 IN (in), 15 GND (power), 16 ~{OE} (in), 17 OUT (out), 18 OUT (out), 19 NC, 20 OUT (out), 21 OUT (out), 22 OUT (out), 23 OUT (out), 24 OUT (out), 25 OUT (out), 26 OUT (out), 27 OUT (out), 28 VCC (power)